# Altium footprint library 691 243 300 0xx.PcbLib: 8 footprints
Each footprint in its own frame and in the unit in brackets; x right, y up, seen from the top. Pads: shape width x height; smd on the part's side, far side on the other; paste and mask are expansions set on the pad; w line width, h text height; cw(c..) or ccw(c..) is an arc to the next point about the centre after c.
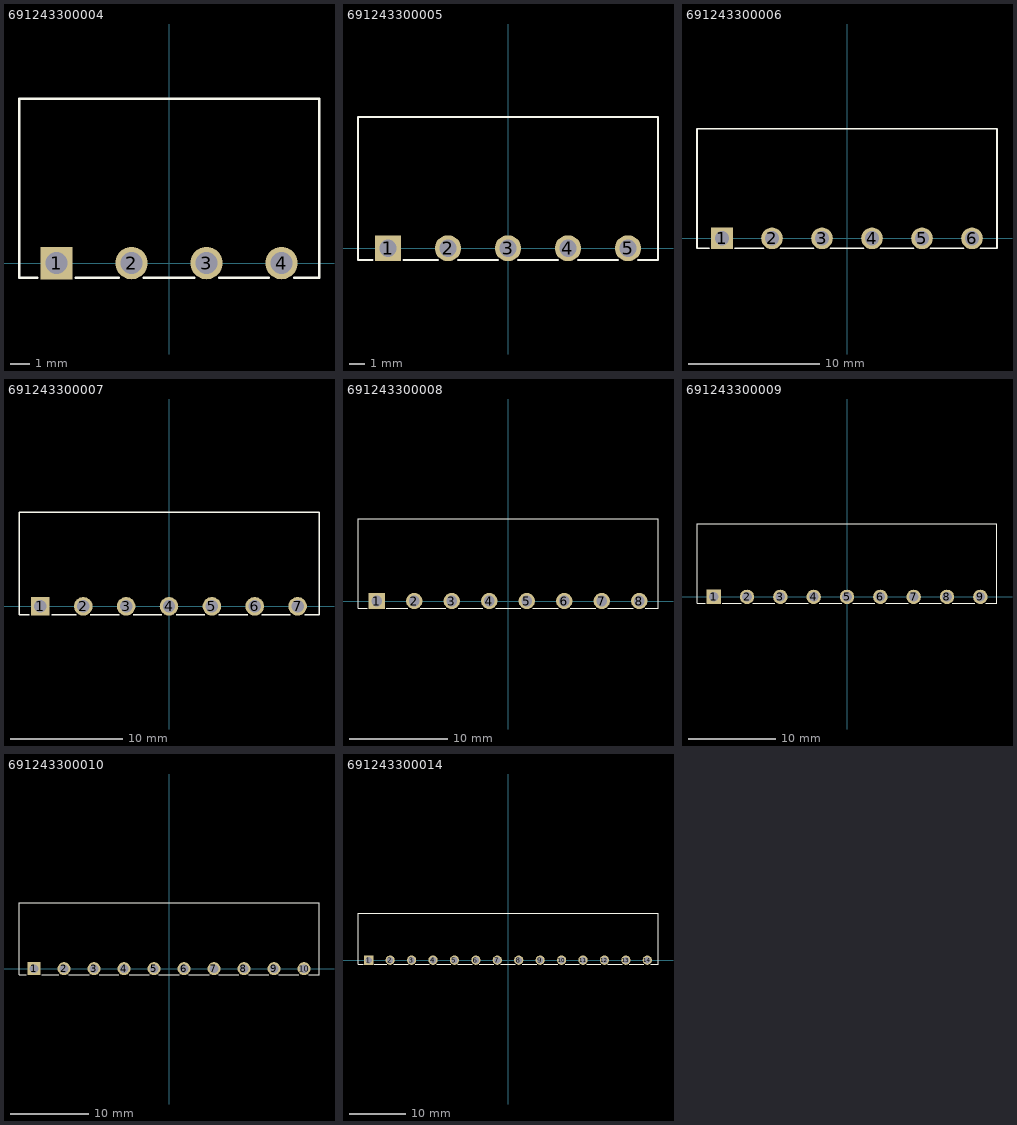
[diagram p0: the footprints below, top view; thin cyan lines are the x and y axes]

## 691243300004 [mm] "Serie 2433 - 3.81 mm _ 4 pins"
height 7.3
pads (4):
  rect 1.65x1.65 hole 1.1: 1(-5.715,0)
  round 1.65 hole 1.1: 2(-1.905,0) 3(1.905,0) 4(5.715,0)
Top Overlay:
  lines w0.127: -6.7,-0.75 -7.62,-0.75 -7.62,8.35 7.62,8.35 7.62,-0.75 6.35,-0.75 ; -4.725,-0.75 -2.55,-0.75 ; -1.275,-0.75 1.275,-0.75 ; 2.55,-0.75 5.075,-0.75
3D body: height 7.32, standoff -3.48, extent -7.64,-0.75 7.6,8.35

## 691243300005 [mm] "Serie 2433 - 3.81 mm _ 5 pins"
height 7.3
pads (5):
  rect 1.65x1.65 hole 1.1: 1(-7.62,0)
  round 1.65 hole 1.1: 2(-3.81,0) 3(0,0) 4(3.81,0) 5(7.62,0)
Top Overlay:
  lines w0.127: -8.605,-0.75 -9.525,-0.75 -9.525,8.35 9.525,8.35 9.525,-0.75 8.25,-0.75 ; -6.63,-0.75 -4.455,-0.75 ; -3.18,-0.75 -0.63,-0.75 ; 0.645,-0.75 3.17,-0.75 ; 4.445,-0.75 7,-0.75
3D body: height 7.32, standoff -3.48, extent -9.55,-0.75 9.5,8.35

## 691243300006 [mm] "Serie 2433 - 3.81 mm _ 6 pins"
height 7.3
pads (6):
  rect 1.65x1.65 hole 1.1: 1(-9.525,0)
  round 1.65 hole 1.1: 2(-5.715,0) 3(-1.905,0) 4(1.905,0) 5(5.715,0) 6(9.525,0)
Top Overlay:
  lines w0.127: -10.51,-0.75 -11.43,-0.75 -11.43,8.35 11.43,8.35 11.43,-0.75 10.15,-0.75 ; -8.535,-0.75 -6.36,-0.75 ; -5.085,-0.75 -2.535,-0.75 ; -1.26,-0.75 1.265,-0.75 ; 2.54,-0.75 5.095,-0.75 ; 6.345,-0.75 8.9,-0.75
3D body: height 7.32, standoff -3.48, extent -11.45,-0.75 11.41,8.35

## 691243300007 [mm] "Serie 2433 - 3.81 mm _ 7 pins"
height 7.3
pads (7):
  rect 1.65x1.65 hole 1.1: 1(-11.43,0)
  round 1.65 hole 1.1: 2(-7.62,0) 3(-3.81,0) 4(0,0) 5(3.81,0) 6(7.62,0) 7(11.43,0)
Top Overlay:
  lines w0.127: -12.415,-0.75 -13.335,-0.75 -13.335,8.35 13.335,8.35 13.335,-0.75 12.05,-0.75 ; -10.44,-0.75 -8.265,-0.75 ; -6.99,-0.75 -4.44,-0.75 ; -3.165,-0.75 -0.64,-0.75 ; 0.635,-0.75 3.19,-0.75 ; 4.44,-0.75 6.995,-0.75 ; 8.245,-0.75 10.8,-0.75
3D body: height 7.32, standoff -3.48, extent -13.35,-0.75 13.32,8.35

## 691243300008 [mm] "Serie 2433 - 3.81 mm _ 8 pins"
height 7.3
pads (8):
  rect 1.65x1.65 hole 1.1: 1(-13.335,0)
  round 1.65 hole 1.1: 2(-9.525,0) 3(-5.715,0) 4(-1.905,0) 5(1.905,0) 6(5.715,0) 7(9.525,0) 8(13.335,0)
Top Overlay:
  lines w0.127: -14.32,-0.75 -15.24,-0.75 -15.24,8.35 15.24,8.35 15.24,-0.75 13.95,-0.75 ; -12.345,-0.75 -10.17,-0.75 ; -8.895,-0.75 -6.345,-0.75 ; -5.07,-0.75 -2.545,-0.75 ; -1.27,-0.75 1.285,-0.75 ; 2.535,-0.75 5.09,-0.75 ; 6.34,-0.75 8.895,-0.75 ; 10.145,-0.75 12.7,-0.75
3D body: height 7.32, standoff -3.48, extent -15.23,-0.75 15.25,8.35

## 691243300009 [mm] "Serie 2433 - 3.81 mm _ 9 pins"
height 7.3
pads (9):
  rect 1.65x1.65 hole 1.1: 1(-15.24,0)
  round 1.65 hole 1.1: 2(-11.43,0) 3(-7.62,0) 4(-3.81,0) 5(0,0) 6(3.81,0) 7(7.62,0) 8(11.43,0) 9(15.24,0)
Top Overlay:
  lines w0.127: -16.225,-0.75 -17.145,-0.75 -17.145,8.35 17.145,8.35 17.145,-0.75 15.85,-0.75 ; -14.25,-0.75 -12.075,-0.75 ; -10.8,-0.75 -8.25,-0.75 ; -6.975,-0.75 -4.45,-0.75 ; -3.175,-0.75 -0.62,-0.75 ; 0.63,-0.75 3.185,-0.75 ; 4.435,-0.75 6.99,-0.75 ; 8.24,-0.75 10.795,-0.75 ; 12.045,-0.75 14.6,-0.75
3D body: height 7.32, standoff -3.48, extent -17.15,-0.75 17.14,8.35

## 691243300010 [mm] "Serie 2433 - 3.81 mm _ 10 pins"
height 7.3
pads (10):
  rect 1.65x1.65 hole 1.1: 1(-17.145,0)
  round 1.65 hole 1.1: 2(-13.335,0) 3(-9.525,0) 4(-5.715,0) 5(-1.905,0) 6(1.905,0) 7(5.715,0) 8(9.525,0) 9(13.335,0) 10(17.145,0)
Top Overlay:
  lines w0.127: -18.13,-0.75 -19.05,-0.75 -19.05,8.35 19.05,8.35 19.05,-0.75 17.75,-0.75 ; -16.155,-0.75 -13.98,-0.75 ; -12.705,-0.75 -10.155,-0.75 ; -8.88,-0.75 -6.355,-0.75 ; -5.08,-0.75 -2.525,-0.75 ; -1.275,-0.75 1.28,-0.75 ; 2.53,-0.75 5.085,-0.75 ; 6.335,-0.75 8.89,-0.75 ; 10.14,-0.75 12.695,-0.75 ; 13.945,-0.75 16.5,-0.75
3D body: height 7.32, standoff -3.48, extent -19.05,-0.75 19.05,8.35

## 691243300014 [mm] "Serie 2433 - 3.81 mm _ 14 pins"
height 7.3
pads (14):
  rect 1.65x1.65 hole 1.1: 1(-24.765,0)
  round 1.65 hole 1.1: 2(-20.955,0) 3(-17.145,0) 4(-13.335,0) 5(-9.525,0) 6(-5.715,0) 7(-1.905,0) 8(1.905,0) 9(5.715,0) 10(9.525,0) 11(13.335,0) 12(17.145,0) 13(20.955,0) 14(24.765,0)
Top Overlay:
  lines w0.127: -25.75,-0.75 -26.67,-0.75 -26.67,8.35 26.67,8.35 26.67,-0.75 25.4,-0.75 ; -23.775,-0.75 -21.6,-0.75 ; -20.325,-0.75 -17.775,-0.75 ; -16.5,-0.75 -13.975,-0.75 ; -12.7,-0.75 -10.145,-0.75 ; -8.895,-0.75 -6.34,-0.75 ; -5.09,-0.75 -2.535,-0.75 ; -1.25,-0.75 1.27,-0.75 ; 2.55,-0.75 5.075,-0.75 ; 6.35,-0.75 8.88,-0.75 ; 10.15,-0.75 12.7,-0.75 ; 13.975,-0.75 16.5,-0.75 ; 17.775,-0.75 20.325,-0.75 ; 21.6,-0.75 24.125,-0.75